# Altium footprint library PIC32ETH.PcbLib: 22 footprints (part 2 of 2)
Each footprint in its own frame and in the unit in brackets; x right, y up, seen from the top. Pads: shape width x height; smd on the part's side, far side on the other; paste and mask are expansions set on the pad; w line width, h text height; cw(c..) or ccw(c..) is an arc to the next point about the centre after c.
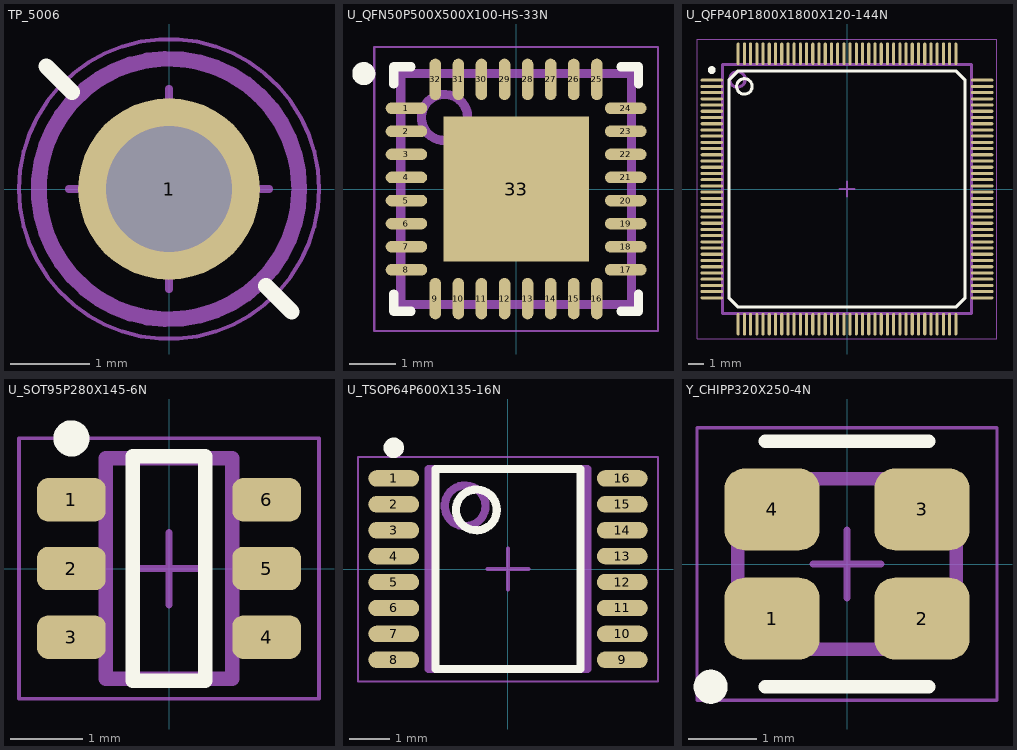
[diagram p1: the footprints below, top view; thin cyan lines are the x and y axes]

## TP_5006 [mm] "Testpoint"
height 5.588
pads (1):
  round 2.3 hole 1.6: 1(0,0)
Top Overlay:
  lines w0.2: -1.556,1.556 -1.23,1.23 ; 1.23,-1.23 1.556,-1.556
Top Assembly:
  circle w0.2: c0,0 r1.65
Top Component Center:
  lines w0.1: -1.27,0 1.27,0 ; 0,-1.27 0,1.27
Top Courtyard:
  circle w0.05: c0,0 r1.9
3D body "User Library-testpoint.step": height 5.61, standoff -3.26, extent -2.245,-2.245 2.245,2.245

## U_QFN50P500X500X100-HS-33N [mm] "QFN, 32-Leads, Body 5.00x5.00mm, Pitch 0.50mm, Thermal Pad 3.15x3.15mm, IPC Medium Density"
height 1
pads (33):
  oval 0.9x0.25 smd: 1(-2.375,1.75) 2(-2.375,1.25) 3(-2.375,0.75) 4(-2.375,0.25) 5(-2.375,-0.25) 6(-2.375,-0.75) 7(-2.375,-1.25) 8(-2.375,-1.75) 17(2.375,-1.75) 18(2.375,-1.25) 19(2.375,-0.75) 20(2.375,-0.25) 21(2.375,0.25) 22(2.375,0.75) 23(2.375,1.25) 24(2.375,1.75)
  oval 0.25x0.9 smd: 9(-1.75,-2.375) 10(-1.25,-2.375) 11(-0.75,-2.375) 12(-0.25,-2.375) 13(0.25,-2.375) 14(0.75,-2.375) 15(1.25,-2.375) 16(1.75,-2.375) 25(1.75,2.375) 26(1.25,2.375) 27(0.75,2.375) 28(0.25,2.375) 29(-0.25,2.375) 30(-0.75,2.375) 31(-1.25,2.375) 32(-1.75,2.375)
  rect 3.15x3.15 smd: 33(0,0)
Top Overlay:
  circle w0.25: c-3.3,2.5 r0.125
  lines w0.2: -2.65,-2.275 -2.65,-2.65 -2.275,-2.65 ; -2.65,2.275 -2.65,2.65 -2.275,2.65 ; 2.275,-2.65 2.65,-2.65 2.65,-2.275 ; 2.275,2.65 2.65,2.65 2.65,2.275
Top Assembly:
  circle w0.2: c-1.55,1.55 r0.5
  lines w0.2: -2.5,-2.5 2.5,-2.5 2.5,2.5 -2.5,2.5 -2.5,-2.5
Top Component Center:
  lines w0.1: -0.5,0 0.5,0 ; 0,-0.5 0,0.5
Top Courtyard:
  lines w0.05: -3.075,-3.075 3.075,-3.075 3.075,3.075 -3.075,3.075 -3.075,-3.075
3D body "QFN50P500X500X100_HS-33N.step": height 1, standoff 0, extent -2.55,-2.55 2.55,2.55

## U_QFP40P1800X1800X120-144N [mm] "QFP, 144-Leads, Body 18.00x18.00mm, Pitch 0.40mm, IPC Medium Density"
height 1.2
pads (144):
  oval 1.45x0.2 smd: 1(-8.7,7) 2(-8.7,6.6) 3(-8.7,6.2) 4(-8.7,5.8) 5(-8.7,5.4) 6(-8.7,5) 7(-8.7,4.6) 8(-8.7,4.2) 9(-8.7,3.8) 10(-8.7,3.4) 11(-8.7,3) 12(-8.7,2.6) 13(-8.7,2.2) 14(-8.7,1.8) 15(-8.7,1.4) 16(-8.7,1) 17(-8.7,0.6) 18(-8.7,0.2) 19(-8.7,-0.2) 20(-8.7,-0.6) 21(-8.7,-1) 22(-8.7,-1.4) 23(-8.7,-1.8) 24(-8.7,-2.2) 25(-8.7,-2.6) 26(-8.7,-3) 27(-8.7,-3.4) 28(-8.7,-3.8) 29(-8.7,-4.2) 30(-8.7,-4.6) 31(-8.7,-5) 32(-8.7,-5.4) 33(-8.7,-5.8) 34(-8.7,-6.2) 35(-8.7,-6.6) 36(-8.7,-7) 73(8.7,-7) 74(8.7,-6.6) 75(8.7,-6.2) 76(8.7,-5.8) 77(8.7,-5.4) 78(8.7,-5) 79(8.7,-4.6) 80(8.7,-4.2) 81(8.7,-3.8) 82(8.7,-3.4) 83(8.7,-3) 84(8.7,-2.6) 85(8.7,-2.2) 86(8.7,-1.8) 87(8.7,-1.4) 88(8.7,-1) 89(8.7,-0.6) 90(8.7,-0.2) 91(8.7,0.2) 92(8.7,0.6) 93(8.7,1) 94(8.7,1.4) 95(8.7,1.8) 96(8.7,2.2) 97(8.7,2.6) 98(8.7,3) 99(8.7,3.4) 100(8.7,3.8) 101(8.7,4.2) 102(8.7,4.6) 103(8.7,5) 104(8.7,5.4) 105(8.7,5.8) 106(8.7,6.2) 107(8.7,6.6) 108(8.7,7)
  oval 0.2x1.45 smd: 37(-7,-8.7) 38(-6.6,-8.7) 39(-6.2,-8.7) 40(-5.8,-8.7) 41(-5.4,-8.7) 42(-5,-8.7) 43(-4.6,-8.7) 44(-4.2,-8.7) 45(-3.8,-8.7) 46(-3.4,-8.7) 47(-3,-8.7) 48(-2.6,-8.7) 49(-2.2,-8.7) 50(-1.8,-8.7) 51(-1.4,-8.7) 52(-1,-8.7) 53(-0.6,-8.7) 54(-0.2,-8.7) 55(0.2,-8.7) 56(0.6,-8.7) 57(1,-8.7) 58(1.4,-8.7) 59(1.8,-8.7) 60(2.2,-8.7) 61(2.6,-8.7) 62(3,-8.7) 63(3.4,-8.7) 64(3.8,-8.7) 65(4.2,-8.7) 66(4.6,-8.7) 67(5,-8.7) 68(5.4,-8.7) 69(5.8,-8.7) 70(6.2,-8.7) 71(6.6,-8.7) 72(7,-8.7) 109(7,8.7) 110(6.6,8.7) 111(6.2,8.7) 112(5.8,8.7) 113(5.4,8.7) 114(5,8.7) 115(4.6,8.7) 116(4.2,8.7) 117(3.8,8.7) 118(3.4,8.7) 119(3,8.7) 120(2.6,8.7) 121(2.2,8.7) 122(1.8,8.7) 123(1.4,8.7) 124(1,8.7) 125(0.6,8.7) 126(0.2,8.7) 127(-0.2,8.7) 128(-0.6,8.7) 129(-1,8.7) 130(-1.4,8.7) 131(-1.8,8.7) 132(-2.2,8.7) 133(-2.6,8.7) 134(-3,8.7) 135(-3.4,8.7) 136(-3.8,8.7) 137(-4.2,8.7) 138(-4.6,8.7) 139(-5,8.7) 140(-5.4,8.7) 141(-5.8,8.7) 142(-6.2,8.7) 143(-6.6,8.7) 144(-7,8.7)
Top Overlay:
  circle w0.2: c-6.6,6.6 r0.5
  circle w0.25: c-8.7,7.65 r0.125
  lines w0.2: -7.6,-7 -7,-7.6 7,-7.6 7.6,-7 7.6,7 7,7.6 -7,7.6 -7.6,7 -7.6,-7
Top Assembly:
  circle w0.2: c-7.05,7.05 r0.5
  lines w0.2: -8,-8 8,-8 8,8 -8,8 -8,-8
Top Component Center:
  lines w0.1: -0.5,0 0.5,0 ; 0,-0.5 0,0.5
Top Courtyard:
  lines w0.05: -9.65,-9.65 9.65,-9.65 9.65,9.65 -9.65,9.65 -9.65,-9.65
3D body "CQFP40P1800X1800X120-144N.step": height 1.05, standoff 0, extent -9,-9 9,9

## U_SOT95P280X145-6N [mm] "SOT-23, 6-Leads, Body 2.90x2.80mm, Pitch 0.95mm, IPC Medium Density"
height 1.45
pads (6):
  rrect50% 0.95x0.6 smd: 1(-1.35,0.95) 2(-1.35,0) 3(-1.35,-0.95) 4(1.35,-0.95) 5(1.35,0) 6(1.35,0.95)
Top Overlay:
  circle w0.25: c-1.35,1.8 r0.125
  lines w0.2: -0.5,-1.55 0.5,-1.55 0.5,1.55 -0.5,1.55 -0.5,-1.55
Top Assembly:
  lines w0.2: -0.875,-1.525 -0.875,1.525 0.875,1.525 0.875,-1.525 -0.875,-1.525
Top Component Center:
  lines w0.1: -0.5,0 0.5,0 ; 0,-0.5 0,0.5
Top Courtyard:
  lines w0.05: -2.075,-1.8 -2.075,1.8 2.075,1.8 2.075,-1.8 -2.075,-1.8
3D body "SOT95P280X145-6N.step": height 1.45, standoff 0, extent -1.399,-1.525 1.399,1.525

## U_TSOP64P600X135-16N [mm] "TSOP, 16-Leads, Body 4.90x3.91mm, Pitch 0.64mm, IPC Medium Density"
height 1.35
pads (16):
  oval 1.25x0.4 smd: 1(-2.8,2.222) 2(-2.8,1.587) 3(-2.8,0.953) 4(-2.8,0.318) 5(-2.8,-0.318) 6(-2.8,-0.953) 7(-2.8,-1.587) 8(-2.8,-2.222) 9(2.8,-2.222) 10(2.8,-1.587) 11(2.8,-0.953) 12(2.8,-0.318) 13(2.8,0.318) 14(2.8,0.953) 15(2.8,1.587) 16(2.8,2.222)
Top Overlay:
  circle w0.2: c-0.775,1.45 r0.5
  circle w0.25: c-2.8,2.973 r0.125
  lines w0.2: -1.775,-2.45 1.775,-2.45 1.775,2.45 -1.775,2.45 -1.775,-2.45
Top Assembly:
  circle w0.2: c-1.05,1.55 r0.5
  lines w0.2: -1.95,-2.45 1.95,-2.45 1.95,2.45 -1.95,2.45 -1.95,-2.45
Top Component Center:
  lines w0.1: -0.5,0 0.5,0 ; 0,-0.5 0,0.5
Top Courtyard:
  lines w0.05: -3.675,-2.75 3.675,-2.75 3.675,2.75 -3.675,2.75 -3.675,-2.75
3D body "TSOP64P600X135-16N.step": height 1.35, standoff 0, extent -2.997,-2.45 2.997,2.45

## Y_CHIPP320X250-4N [mm] "Chip Oscillator , 4-Leads, Body 3.20x2.50mm, IPC Medium Density"
height 1.2
pads (4):
  rrect50% 1.4x1.2 smd: 1(-1.1,-0.8) 2(1.1,-0.8) 3(1.1,0.8) 4(-1.1,0.8)
Top Overlay:
  circle w0.25: c-2,-1.8 r0.125
  lines w0.2: -1.2,-1.8 1.2,-1.8 ; -1.2,1.8 1.2,1.8
Top Assembly:
  lines w0.2: -1.6,-1.25 -1.6,1.25 1.6,1.25 1.6,-1.25 -1.6,-1.25
Top Component Center:
  lines w0.1: -0.5,0 0.5,0 ; 0,-0.5 0,0.5
Top Courtyard:
  lines w0.05: -2.2,-2 -2.2,2 2.2,2 2.2,-2 -2.2,-2
3D body: height 1.2, standoff 0, extent -1.6,-1.25 1.6,1.25